# Altium footprint library RUF-Dispositivos-Grales.PcbLib: 97 footprints (part 4 of 7)
Each footprint in its own frame and in the unit in brackets; x right, y up, seen from the top. Pads: shape width x height; smd on the part's side, far side on the other; paste and mask are expansions set on the pad; w line width, h text height; cw(c..) or ccw(c..) is an arc to the next point about the centre after c.
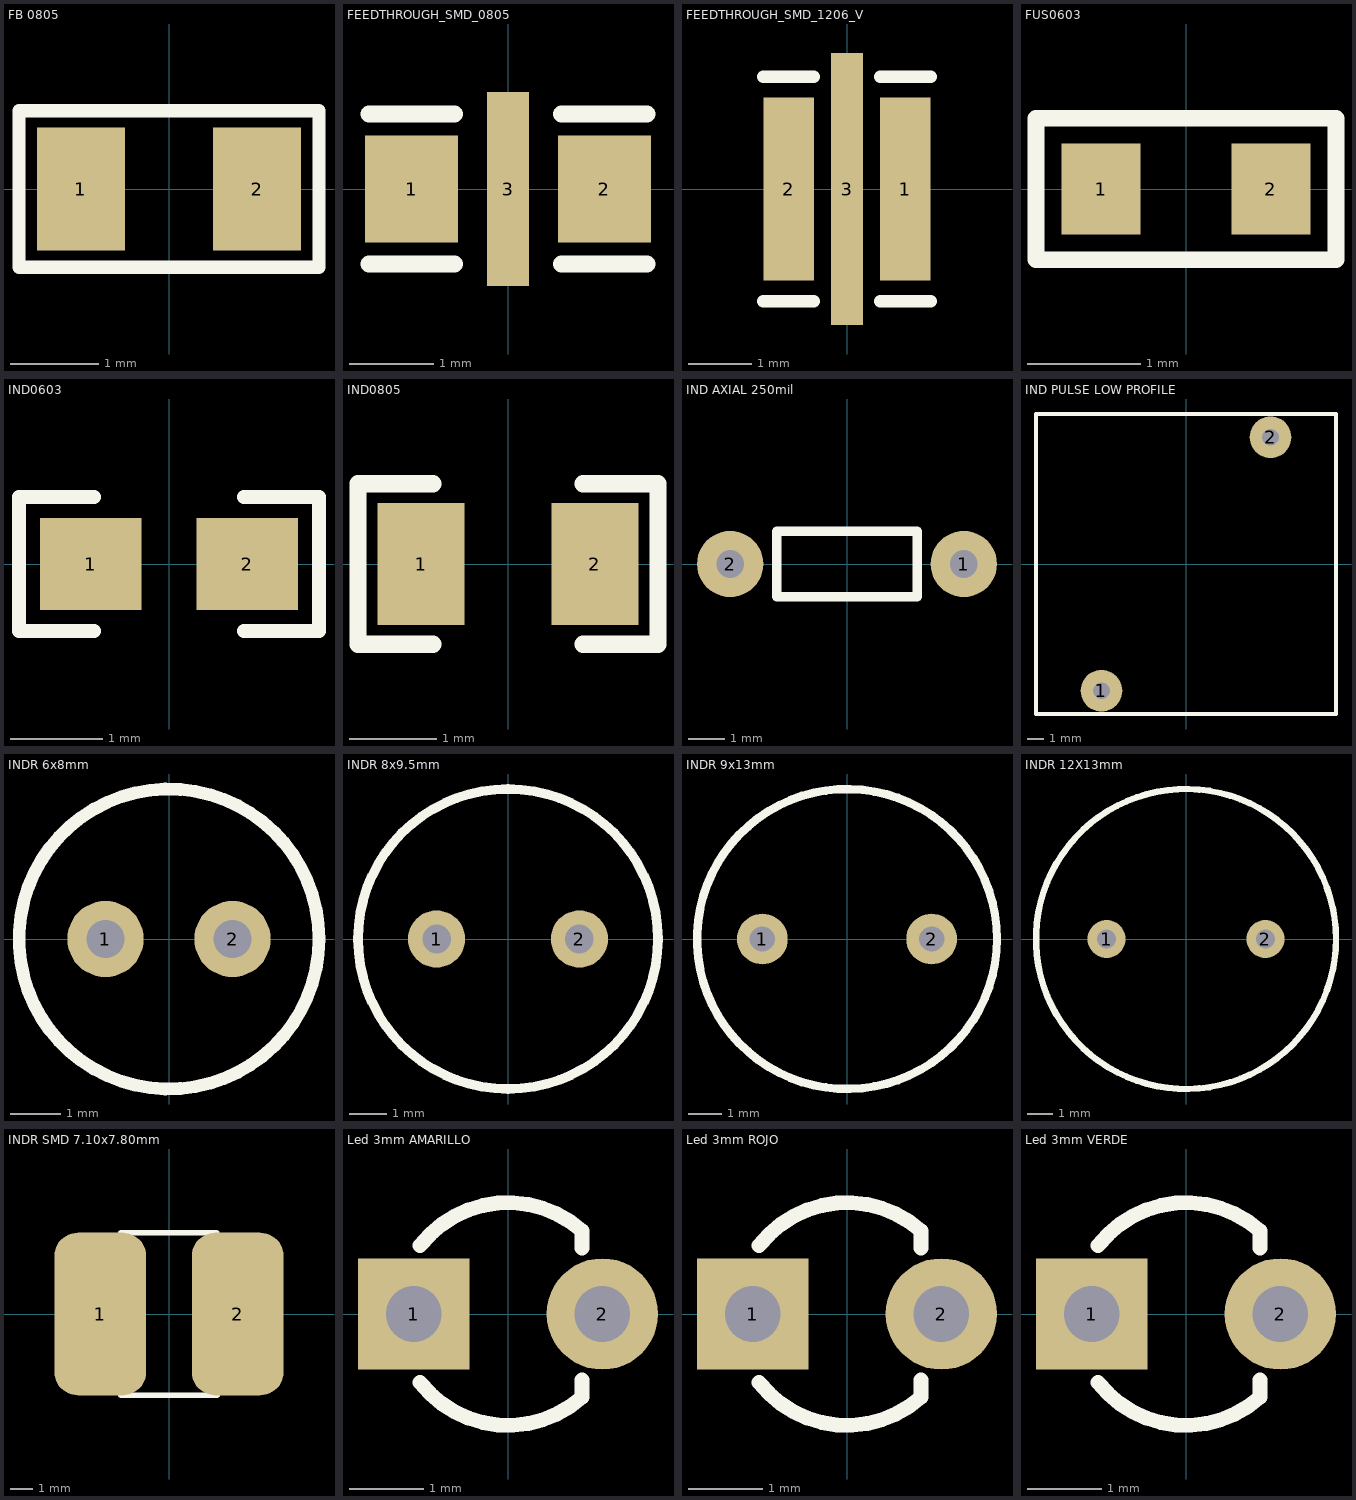
[diagram p3: the footprints below, top view; thin cyan lines are the x and y axes]

## FB 0805 [mm]
pads (2):
  rect 1x1.4 smd: 1(-1,0) 2(1,0)
Top Overlay:
  lines w0.152: -1.702,-0.889 -1.702,0.889 1.702,0.889 1.702,-0.889 -1.702,-0.889
Top Paste:
  lines w0.152: -1.219,-0.533 -0.864,-0.533 ccw(c-0.864,-0.381) -0.711,-0.381 -0.711,0 -0.711,0.381 ccw(c-0.864,0.381) -0.864,0.533 -1.219,0.533 ; 1.219,-0.533 0.864,-0.533 cw(c0.864,-0.381) 0.711,-0.381 0.711,0 0.711,0.381 cw(c0.864,0.381) 0.864,0.533 1.219,0.533
  lines w0.203: -1.016,-0.508 -1.219,-0.508 cw(c-1.219,-0.305) -1.422,-0.305 -1.422,0 -1.422,0.305 cw(c-1.219,0.305) -1.219,0.508 -1.016,0.508 ; 1.016,-0.508 1.219,-0.508 ccw(c1.219,-0.305) 1.422,-0.305 1.422,0 1.422,0.305 ccw(c1.219,0.305) 1.219,0.508 1.016,0.508
3D body: height 0.78, standoff 0, extent -1,-0.625 1,0.625

## FEEDTHROUGH_SMD_0805 [mm]
pads (3):
  rect 1.1x1.27 smd: 1(-1.143,0) 2(1.143,0)
  rect 0.5x2.3 smd: 3(0,0)
Top Overlay:
  lines w0.2: -1.651,-0.889 -0.635,-0.889 ; -1.651,0.889 -0.635,0.889 ; 0.635,-0.889 1.651,-0.889 ; 0.635,0.889 1.651,0.889
3D body: height 0.78, standoff 0, extent -1,-0.625 1,0.625

## FEEDTHROUGH_SMD_1206_V [mm]
pads (3):
  rect 0.8x2.9 smd: 1(0.925,0) 2(-0.925,0)
  rect 0.5x4.3 smd: 3(0,0)
Top Overlay:
  lines w0.2: -1.325,-1.775 -0.525,-1.775 ; -1.325,1.775 -0.525,1.775 ; 0.525,-1.775 1.325,-1.775 ; 0.525,1.775 1.325,1.775
3D body: height 1, standoff 0, extent -0.8,-1.6 0.8,1.6

## FUS0603 [mm]
pads (2):
  rect 0.7x0.8 smd: 1(-0.75,0) 2(0.75,0)
Top Overlay:
  lines w0.15: -1.325,-0.625 1.325,-0.625 1.325,0.625 -1.325,0.625 -1.325,-0.625
3D body: height 0.9, standoff 0, extent -0.8,-0.4 0.8,0.4

## IND0603 [mm]
pads (2):
  rect 1.1x1 smd: 1(-0.85,0) 2(0.85,0)
Top Overlay:
  lines w0.15: -0.813,-0.725 -1.625,-0.725 -1.625,0.725 -0.813,0.725 ; 0.813,-0.725 1.625,-0.725 1.625,0.725 0.813,0.725
Top Paste:
  lines w0.102: -0.889,-0.267 ccw(c-0.8,-0.267) -0.8,-0.356 -0.749,-0.356 -0.699,-0.356 ccw(c-0.699,-0.267) -0.61,-0.267 -0.61,0 -0.61,0.267 ccw(c-0.699,0.267) -0.699,0.356 -0.749,0.356 -0.8,0.356 ccw(c-0.8,0.267) -0.889,0.267 -0.889,0 -0.889,-0.267 ; 0.611,-0.267 ccw(c0.7,-0.267) 0.7,-0.356 0.751,-0.356 0.801,-0.356 ccw(c0.801,-0.267) 0.89,-0.267 0.89,0 0.89,0.267 ccw(c0.801,0.267) 0.801,0.356 0.751,0.356 0.7,0.356 ccw(c0.7,0.267) 0.611,0.267 0.611,0 0.611,-0.267
3D body: height 0.5, standoff 0, extent -0.8,-0.4 0.8,0.4

## IND0805 [mm]
pads (2):
  rect 1x1.4 smd: 1(-1,0) 2(1,0)
Top Overlay:
  lines w0.2: -0.863,-0.925 -1.725,-0.925 -1.725,0.925 -0.863,0.925 ; 0.863,-0.925 1.725,-0.925 1.725,0.925 0.863,0.925
Top Paste:
  lines w0.152: -1.219,-0.533 -0.864,-0.533 ccw(c-0.864,-0.381) -0.711,-0.381 -0.711,0 -0.711,0.381 ccw(c-0.864,0.381) -0.864,0.533 -1.219,0.533 ; 1.219,-0.533 0.864,-0.533 cw(c0.864,-0.381) 0.711,-0.381 0.711,0 0.711,0.381 cw(c0.864,0.381) 0.864,0.533 1.219,0.533
  lines w0.203: -1.016,-0.508 -1.219,-0.508 cw(c-1.219,-0.305) -1.422,-0.305 -1.422,0 -1.422,0.305 cw(c-1.219,0.305) -1.219,0.508 -1.016,0.508 ; 1.016,-0.508 1.219,-0.508 ccw(c1.219,-0.305) 1.422,-0.305 1.422,0 1.422,0.305 ccw(c1.219,0.305) 1.219,0.508 1.016,0.508
3D body: height 0.5, standoff 0, extent -1,-0.6 1,0.6

## IND AXIAL 250mil [mm]
pads (2):
  round 1.8 hole 0.75: 1(3.175,0) 2(-3.175,0)
Top Overlay:
  lines w0.254: -3.25,0 -3.055,0 ; 3.055,0 3.25,0 ; -1.905,-0.889 -1.905,0.889 1.905,0.889 1.905,-0.889 -1.905,-0.889
3D body: height 1.92, standoff -2, extent -3.429,-0.921 3.429,0.92

## IND PULSE LOW PROFILE [mm]
pads (2):
  round 2.5 hole 1: 1(-5.08,-7.62) 2(5.08,7.62)
Top Overlay:
  lines w0.254: -9.017,-9.017 9.017,-9.017 9.017,9.017 -9.017,9.017 -9.017,-9.017
3D body: height 11.81, standoff -3.68, extent -9.015,-9.017 9.015,9.013

## INDR 6x8mm [mil]
height 314.96
pads (2):
  round 60 hole 30: 1(-50,0) 2(50,0)
Top Overlay:
  circle w10: c0,0 r118.11

## INDR 8x9.5mm [mil]
height 374.02
pads (2):
  round 60 hole 30: 1(-75,0) 2(75,0)
Top Overlay:
  circle w10: c0,0 r157.48

## INDR 9x13mm [mil]
height 511.81
pads (2):
  round 60 hole 30: 1(-100,0) 2(100,0)
Top Overlay:
  circle w10: c0,0 r177.17

## INDR 12X13mm [mil]
height 511.81
pads (2):
  round 60 hole 30: 1(-125,0) 2(125,0)
Top Overlay:
  circle w10: c0,0 r236.22

## INDR SMD 7.10x7.80mm [mm]
pads (2):
  rrect50% 4x7.1 smd: 1(-3,0) 2(3,0)
Top Overlay:
  lines w0.254: -2.1,-3.55 2.1,-3.55 ; -2.1,3.55 2.075,3.55
3D body: height 1.75, standoff 0, extent -3.9,-3.6 3.9,3.6

## Led 3mm AMARILLO [mm]
pads (2):
  rect 1.5x1.5 hole 0.75: 1(-1.27,0)
  round 1.5 hole 0.75: 2(1.27,0)
Top Overlay:
  lines w0.2: -1.184,-0.921 ccw(c0,0) 0.997,-1.121 0.997,-0.889 ; -1.184,0.921 cw(c0,0) 0.997,1.121 0.997,0.889
3D body: height 5.51, standoff -2.49, extent -1.65,-1.651 1.65,1.638

## Led 3mm ROJO [mm]
pads (2):
  rect 1.5x1.5 hole 0.75: 1(-1.27,0)
  round 1.5 hole 0.75: 2(1.27,0)
Top Overlay:
  lines w0.2: -1.184,-0.921 ccw(c0,0) 0.997,-1.121 0.997,-0.889 ; -1.184,0.921 cw(c0,0) 0.997,1.121 0.997,0.889
3D body: height 5.51, standoff -2.49, extent -1.65,-1.651 1.65,1.638

## Led 3mm VERDE [mm]
pads (2):
  rect 1.5x1.5 hole 0.75: 1(-1.27,0)
  round 1.5 hole 0.75: 2(1.27,0)
Top Overlay:
  lines w0.2: -1.184,-0.921 ccw(c0,0) 0.997,-1.121 0.997,-0.889 ; -1.184,0.921 cw(c0,0) 0.997,1.121 0.997,0.889
3D body: height 5.51, standoff -2.49, extent -1.65,-1.651 1.65,1.638